# EAGLE library part STM32F030_BOARD (library STM32F030_Board)
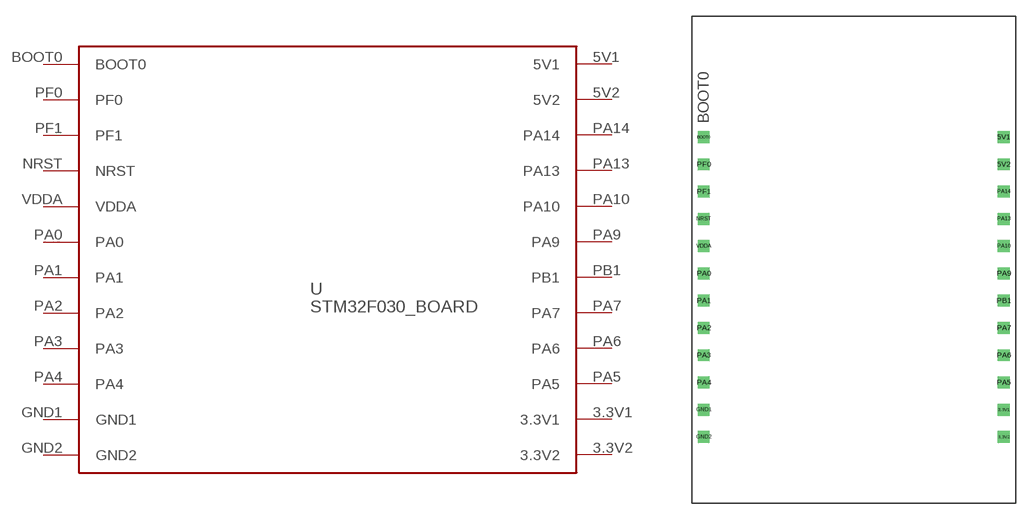
[diagram p0: symbol with the pads of STM32F030F4P6_BOARD; footprint STM32F030F4P6_BOARD]

Designator prefix -

## STM32F030_BOARD  [STM32F030F4P6_BOARD]
3.3V1  3.3V1
3.3V2  3.3V2
5V1  5V1
5V2  5V2
BOOT0  BOOT0
GND1  GND1
GND2  GND2
NRST  NRST
PA0  PA0
PA1  PA1
PA2  PA2
PA3  PA3
PA4  PA4
PA5  PA5
PA6  PA6
PA7  PA7
PA9  PA9
PA10  PA10
PA13  PA13
PA14  PA14
PB1  PB1
PF0  PF0
PF1  PF1
VDDA  VDDA

## Footprint STM32F030F4P6_BOARD (pad centres in mm)
drill 0.6 square: 3.3V1 29.21,-26.67; 3.3V2 29.21,-29.21; 5V1 29.21,-1.27; 5V2 29.21,-3.81; BOOT0 1.27,-1.27; GND1 1.27,-26.67; GND2 1.27,-29.21; NRST 1.27,-8.89; PA0 1.27,-13.97; PA1 1.27,-16.51; PA2 1.27,-19.05; PA3 1.27,-21.59; PA4 1.27,-24.13; PA5 29.21,-24.13; PA6 29.21,-21.59; PA7 29.21,-19.05; PA9 29.21,-13.97; PA10 29.21,-11.43; PA13 29.21,-8.89; PA14 29.21,-6.35; PB1 29.21,-16.51; PF0 1.27,-3.81; PF1 1.27,-6.35; VDDA 1.27,-11.43